# EAGLE library part FS312F-G (library buckboost)
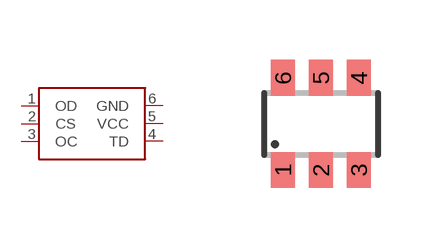
[diagram p1: symbol with the pads of SOT23-6; footprint SOT23-6]

Designator prefix -

## FS312F-G  [SOT23-6]
1  OD
2  CS
3  OC
4  TD
5  VCC
6  GND

## Footprint SOT23-6 (pad centres in mm)
Small Outline Transistor 6 lead
smd 0.6 x 0.9: 1 -0.95,-1.15; 2 0,-1.15; 3 0.95,-1.15; 4 0.95,1.15; 5 0,1.15; 6 -0.95,1.15